# Altium footprint library TEXASINSTRUMENTS_PKG_DSC0010J.PcbLib: 1 footprints
Each footprint in its own frame and in the unit in brackets; x right, y up, seen from the top. Pads: shape width x height; smd on the part's side, far side on the other; paste and mask are expansions set on the pad; w line width, h text height; cw(c..) or ccw(c..) is an arc to the next point about the centre after c.
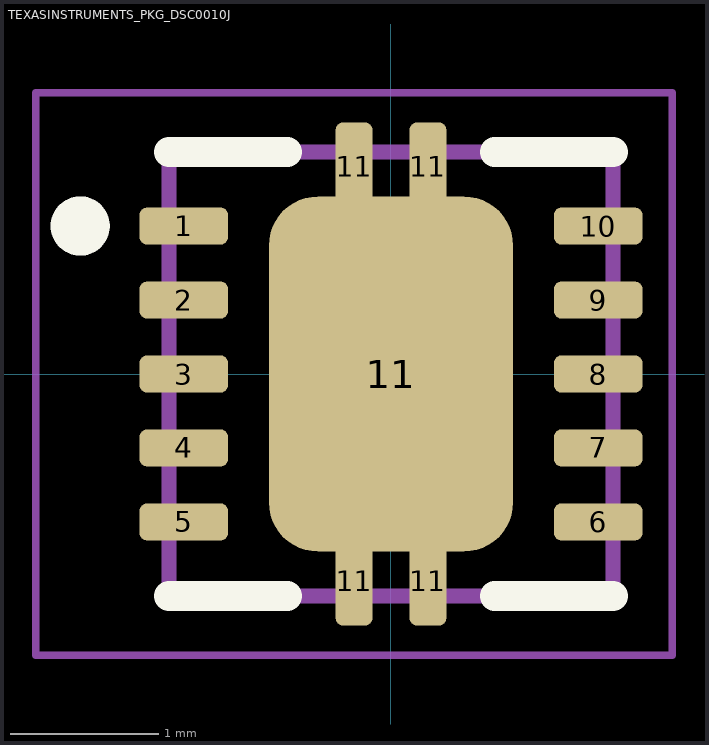
[diagram p0: the footprint, top view; thin cyan lines are the x and y axes]

## TEXASINSTRUMENTS_PKG_DSC0010J [mm]
height 1.2
pads (15):
  rrect40% 0.6x0.25 smd: 1(-1.4,1) 2(-1.4,0.5) 3(-1.4,0) 4(-1.4,-0.5) 5(-1.4,-1) 6(1.4,-1) 7(1.4,-0.5) 8(1.4,0) 9(1.4,0.5) 10(1.4,1)
  rrect40% 0.25x0.6 smd: 11(-0.25,-1.4) 11(-0.25,1.4) 11(0.25,-1.4) 11(0.25,1.4)
  rrect40% 1.65x2.4 smd: 11(0,0)
Top Overlay:
  circle w0.2: c-2.1,1 r0.1
  lines w0.2: -1.5,-1.5 -0.7,-1.5 ; -1.5,1.5 -0.7,1.5 ; 0.7,-1.5 1.5,-1.5 ; 0.7,1.5 1.5,1.5
Mechanical 13:
  lines w0.1: -1.5,-1.5 -1.5,1.5 1.5,1.5 1.5,-1.5 -1.5,-1.5
Mechanical 15:
  lines w0.05: -2.4,-1.9 1.9,-1.9 1.9,1.9 -2.4,1.9 -2.4,-1.9
  lines w0.1: -0.5,0 0.5,0 ; 0,-0.5 0,0.5
3D body: height 0.8, standoff 0, extent -1.5,-1.5 1.5,1.5